# Altium footprint library capacitor-0805.PcbLib: 1 footprints
Each footprint in its own frame and in the unit in brackets; x right, y up, seen from the top. Pads: shape width x height; smd on the part's side, far side on the other; paste and mask are expansions set on the pad; w line width, h text height; cw(c..) or ccw(c..) is an arc to the next point about the centre after c.
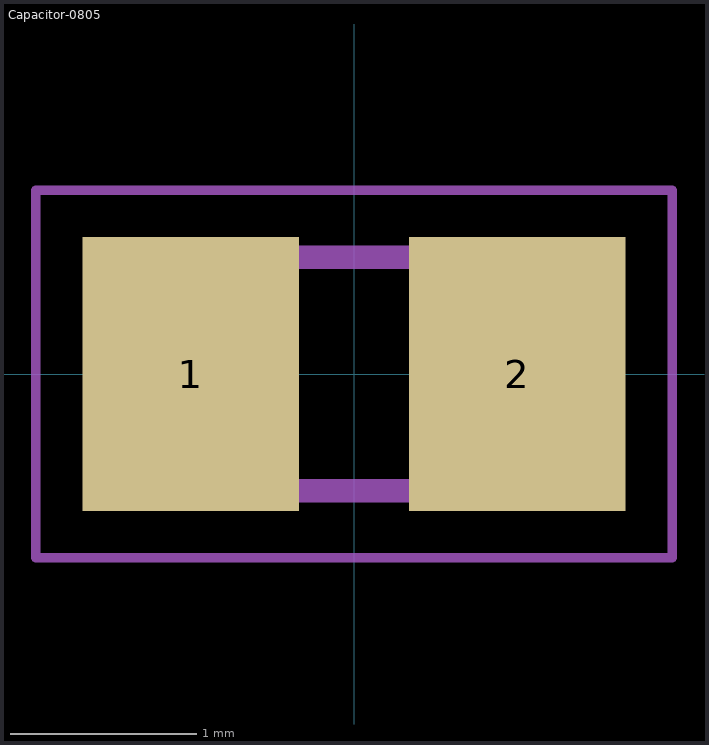
[diagram p0: the footprint, top view; thin cyan lines are the x and y axes]

## Capacitor-0805 [mm] "Ceramic Capacitor X5R 0805 (2012 Metric)"
height 1.45
pads (2):
  rect 1.16x1.47 smd: 1(-0.875,0) 2(0.875,0)
Mechanical 13:
  lines w0.127: -1,-0.625 1,-0.625 1,0.625 -1,0.625 -1,-0.625
Mechanical 15:
  lines w0.05: -1.705,-0.985 -1.705,0.985 1.705,0.985 1.705,-0.985 -1.705,-0.985
3D body "step_temp.STEP": height 0.7, standoff 0, extent -1,-0.625 1,0.625